# Altium footprint library Coiltronics.PcbLib: 1 footprints
Each footprint in its own frame and in the unit in brackets; x right, y up, seen from the top. Pads: shape width x height; smd on the part's side, far side on the other; paste and mask are expansions set on the pad; w line width, h text height; cw(c..) or ccw(c..) is an arc to the next point about the centre after c.
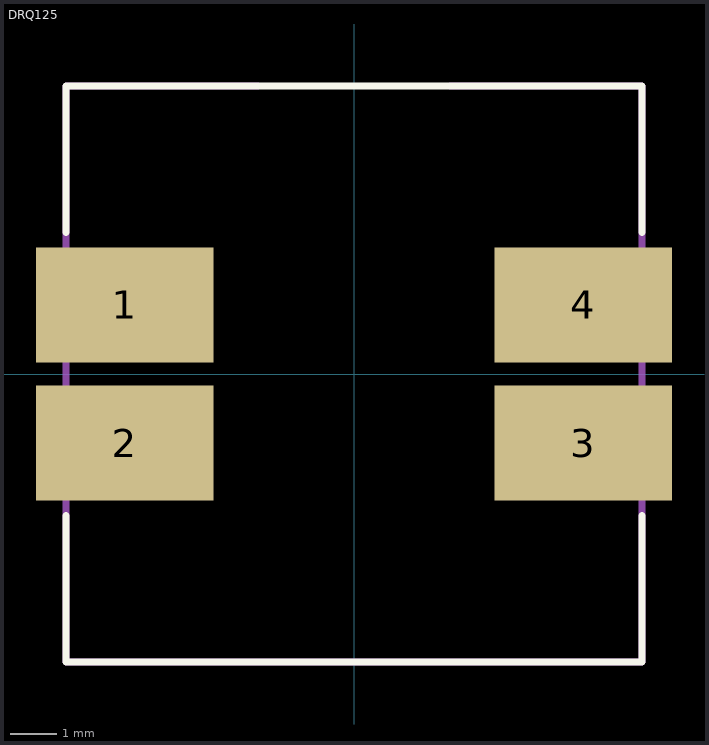
[diagram p0: the footprint, top view; thin cyan lines are the x and y axes]

## DRQ125 [mil]
height 236
pads (4):
  rect 152x98 smd: 1(-196,59) 2(-196,-59) 3(196,-59) 4(196,59)
Top Overlay:
  lines w6: -246,-121.1 -246,-246 246,-246 246,-121.1 ; -246,121.1 -246,246 246,246 246,121.1
Mechanical 1:
  lines w6: -82,246 -246,246 -246,-246 246,-246 246,246 82,246
Mechanical 13:
  lines w0: -246,-246 246,-246 246,246 -246,246 -246,-246